# Altium schematic symbol library pinout.SchLib: 6 symbols
Pins are listed as number, name and electrical type; pins without a type are passive.

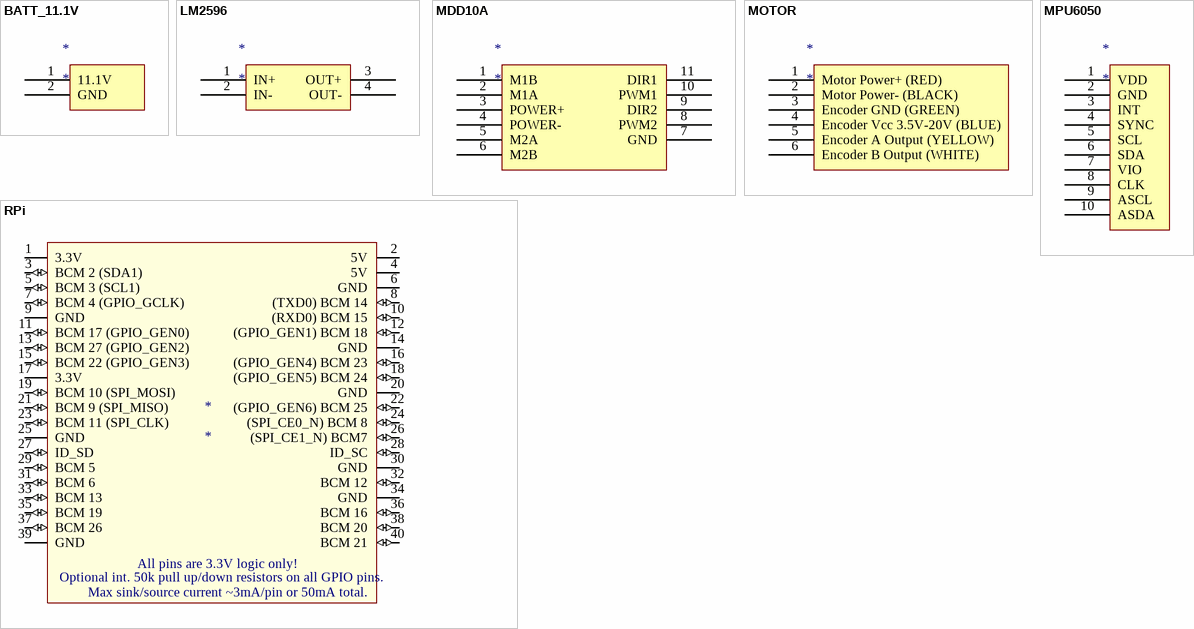
[diagram p0: symbols BATT_11.1V to RPi]

## BATT_11.1V
designator *
11.1V, 4000mAh, 40C 3S LiPo Battery
pins: 1 11.1V, 2 GND

## LM2596
designator *
DZS Elec 2PCS LM2596 DC-DC Step Down Variable Volt Regulator Input 3.2V-40V Output 1.25V-35V Adjustable Buck Converter Electronic Voltage Stabilizer Power Supply Module
pins: 1 IN+, 2 IN-, 3 OUT+, 4 OUT-

## MDD10A
designator *
Cytron 10A 5-30V Dual Channel DC Motor Driver
pins: 1 M1B, 2 M1A, 3 POWER+, 4 POWER-, 5 M2A, 6 M2B, 7 GND, 8 PWM2, 9 DIR2, 10 PWM1, 11 DIR1

## MOTOR
designator *
30:1 Metal Gearmotor 37Dx68L mm with 64 CPR Encoder
pins: 1 Motor Power+ (RED), 2 Motor Power- (BLACK), 3 Encoder GND (GREEN), 4 Encoder Vcc 3.5V-20V (BLUE), 5 Encoder A Output (YELLOW), 6 Encoder B Output (WHITE)

## MPU6050
designator *
SparkFun Triple Axis Accelerometer and Gyro Breakout
pins: 1 VDD, 2 GND, 3 INT, 4 SYNC, 5 SCL, 6 SDA, 7 VIO, 8 CLK, 9 ASCL, 10 ASDA

## RPi
designator *
40-pin IDC 2.54mm P Header with RPi 2+ GPIO pinout; Connector Manufacturer: TE Connectivity; RPi GPIO Pinout: https://pinout.xyz/; Connector Datasheet: http://www.mouser.com/ds/2/418/NG_CD_1761603_B1-619330.pdf; Mouser Part #: 571-3-1761603-3; Adafruit Cable: https://www.adafruit.com/product/1988
footprint 40-Pin IDC Connector 2.54mm Pitch
pins: 1 3.3V (power), 2 5V (power), 3 BCM 2 (SDA1) (io), 4 5V (power), 5 BCM 3 (SCL1) (io), 6 GND (power), 7 BCM 4 (GPIO_GCLK) (io), 8 (TXD0) BCM 14 (io), 9 GND (power), 10 (RXD0) BCM 15 (io), 11 BCM 17 (GPIO_GEN0) (io), 12 (GPIO_GEN1) BCM 18 (io), 13 BCM 27 (GPIO_GEN2) (io), 14 GND (power), 15 BCM 22 (GPIO_GEN3) (io), 16 (GPIO_GEN4) BCM 23 (io), 17 3.3V (power), 18 (GPIO_GEN5) BCM 24 (io), 19 BCM 10 (SPI_MOSI) (io), 20 GND (power), 21 BCM 9 (SPI_MISO) (io), 22 (GPIO_GEN6) BCM 25 (io), 23 BCM 11 (SPI_CLK) (io), 24 (SPI_CE0_N) BCM 8 (io), 25 GND (power), 26 (SPI_CE1_N) BCM7 (io), 27 ID_SD (io), 28 ID_SC (io), 29 BCM 5 (io), 30 GND (power), 31 BCM 6 (io), 32 BCM 12 (io), 33 BCM 13 (io), 34 GND (power), 35 BCM 19 (io), 36 BCM 16 (io), 37 BCM 26 (io), 38 BCM 20 (io), 39 GND (power), 40 BCM 21 (io)
text: All pins are 3.3V logic only!; Optional int. 50k pull up/down resistors on all GPIO pins.; Max sink/source current ~3mA/pin or 50mA total.